# Altium footprint library 2-1445050-3.PcbLib: 1 footprints
Each footprint in its own frame and in the unit in brackets; x right, y up, seen from the top. Pads: shape width x height; smd on the part's side, far side on the other; paste and mask are expansions set on the pad; w line width, h text height; cw(c..) or ccw(c..) is an arc to the next point about the centre after c.
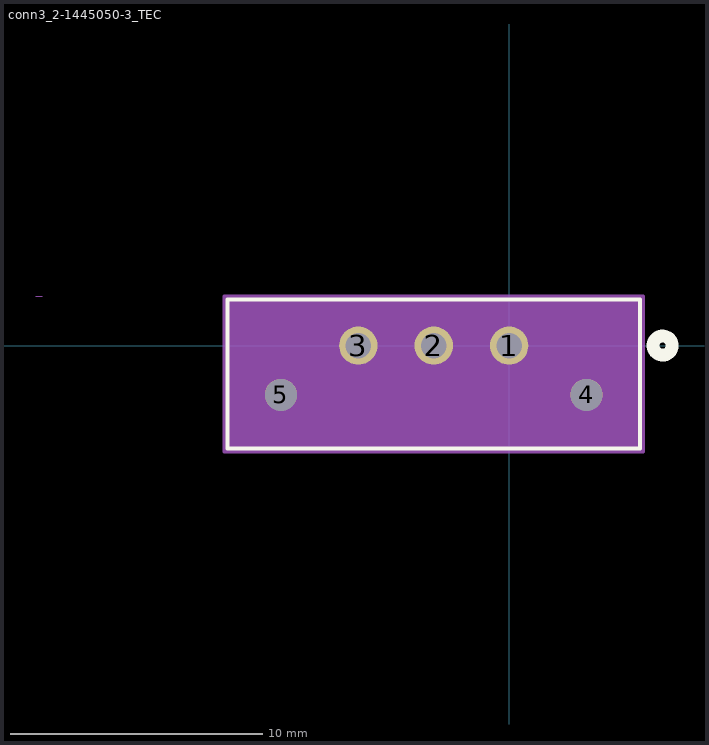
[diagram p0: the footprint, top view; thin cyan lines are the x and y axes]

## conn3_2-1445050-3_TEC [mil]
pads (5):
  round 60 hole 40 mask+0: 1(0,0) 2(-118,0) 3(-236,0)
  round 50 hole 50: 4(121,-77) 5(-357,-77)
Top Overlay:
  circle w20: c240,0 r15
  lines w6: -440.5,-161 204.5,-161 204.5,72 -440.5,72 -440.5,-161
Bottom Overlay:
  circle w20: c240,0 r15
Mechanical 7:
  lines w1: -740.5,77 -730.5,77
Mechanical 13:
  lines w1: -435.5,-156 199.5,-156 199.5,67 -435.5,67 -435.5,-156
Mechanical 15:
  region: 209.5,77 -445.5,77 -445.5,-166 209.5,-166
  region: 199.5,67 -435.5,67 -435.5,-156 199.5,-156
  lines w6: -445.5,-166 -445.5,77 209.5,77 209.5,-166 -445.5,-166
3D body: height 10, standoff 0, extent 0,0 10,10
3D body "kyleconn3.stp": height 393.7, standoff -95.28, extent -371.96,-151.06 131.98,72.17